# Altium schematic symbol library Schlib.SchLib: 23 symbols
Pins are listed as number, name and electrical type; pins without a type are passive.

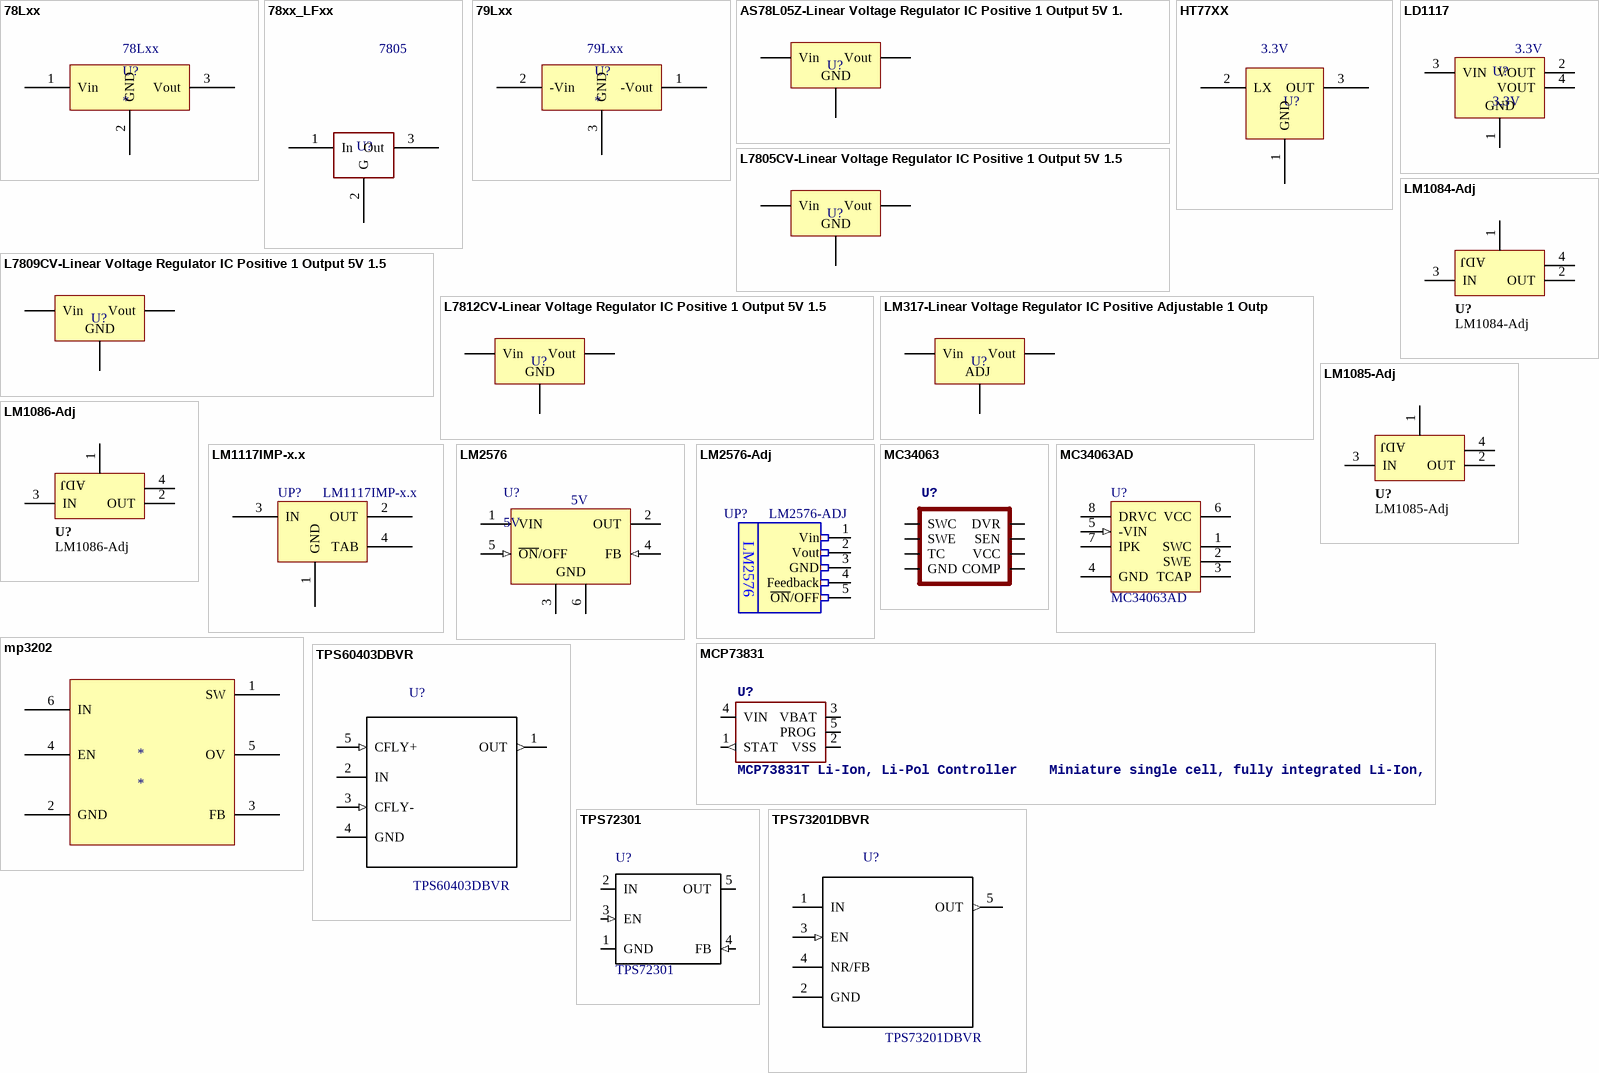
[diagram p0: symbols 78Lxx to TPS73201DBVR]

## 78Lxx
designator U?
footprint 78Lxx
pins: 1 Vin, 2 GND, 3 Vout

## 78xx_LFxx
designator U?, comment 7805
Value: 7805
footprint _TO92
footprint _TO220-ALT
footprint _TO252 (D-PAK, 4-Leads, Body 6.1x6.5mm, Pitch 2.28mm, Lead Span 9.7mm, IPC Medium Density)
footprint _TO220 (TO, Thru-Hole, Vertical, Heatsink Mounted; 3 In-Line Leads; Pitch 2.54 mm)
pins: 1 In, 2 G, 3 Out

## 79Lxx
designator U?
footprint L79lxx (Negative Voltage Regulator)
pins: 1 -Vout, 2 -Vin, 3 GND

## AS78L05Z-Linear Voltage Regulator IC Positive 1 Output 5V 1.5A TO-220AB
designator U?, comment AS78L05Z  (value not drawn)
Linear Voltage Regulator IC Positive FIXED; Manufacturer: STMicroelectronics; Part. No: AS78L05Z-E1; Designer: Abbas Basereh; Link: https://www.aliexpress.com/item/; Link: http://www.tme.eu/en/; Link: http://www.digikey.com/
footprint TO-92 BENT (DESIGNER :ABBAS BASEREH)
footprint TO-92 CF (DESIGNER :ABBAS BASEREH)
footprint TO-92 STR (DESIGNER :ABBAS BASEREH)
pins: 1 Vout, 2 GND, 3 Vin

## HT77XX
designator U?  value 3.3V
footprint _SOT23 (SOT23, 3-Leads, Body 2.9x1.3mm, Pitch 0.95mm, Lead Span 2.3mm - Reverse Pinning, IPC Medium Density)
pins: 1 GND, 2 LX, 3 OUT

## L7805CV-Linear Voltage Regulator IC Positive 1 Output 5V 1.5A TO-220AB
designator U?, comment L7805CV  (value not drawn)
Linear Voltage Regulator IC Positive FIXED; Manufacturer: STMicroelectronics; Designer: Abbas Basereh; Link: https://www.aliexpress.com/item/; Link: http://www.tme.eu/en/; Link: http://www.digikey.com/; Part. No: L7805CV
footprint TO-220 AB WITH HEAT SINK (Epoxy meets UL94, V0)
footprint TO-220 AB (Epoxy meets UL94, V0)
footprint TO-220 AB S (Epoxy meets UL94, V0)
footprint TO-220 AB WITH HEAT SINK ASM
footprint TO-220 AB with heatsink ya25 (Epoxy meets UL94, V0-Design:Abbas Basereh)
pins: 1 Vin, 2 GND, 3 Vout

## L7809CV-Linear Voltage Regulator IC Positive 1 Output 5V 1.5A TO-220AB
designator U?, comment L7809CV  (value not drawn)
Linear Voltage Regulator IC Positive FIXED; Manufacturer: STMicroelectronics; Designer: Abbas Basereh; Link: https://www.aliexpress.com/item/; Link: http://www.tme.eu/en/; Link: http://www.digikey.com/; Part. No: L7809CV
footprint TO-220 AB WITH HEAT SINK (Epoxy meets UL94, V0)
footprint TO-220 AB (Epoxy meets UL94, V0)
footprint TO-220 AB S (Epoxy meets UL94, V0)
footprint TO-220 AB WITH HEAT SINK ASM
footprint TO-220 AB with heatsink ya25 (Epoxy meets UL94, V0-Design:Abbas Basereh)
pins: 1 Vin, 2 GND, 3 Vout

## L7812CV-Linear Voltage Regulator IC Positive 1 Output 5V 1.5A TO-220AB
designator U?, comment L7812CV  (value not drawn)
Linear Voltage Regulator IC Positive FIXED; Manufacturer: STMicroelectronics; Designer: Abbas Basereh; Link: https://www.aliexpress.com/item/; Link: http://www.tme.eu/en/; Link: http://www.digikey.com/; Part. No: L7812CV
footprint TO-220 AB WITH HEAT SINK (Epoxy meets UL94, V0)
footprint TO-220 AB (Epoxy meets UL94, V0)
footprint TO-220 AB S (Epoxy meets UL94, V0)
footprint TO-220 AB WITH HEAT SINK ASM
footprint TO-220 AB with heatsink ya25 (Epoxy meets UL94, V0-Design:Abbas Basereh)
pins: 1 Vin, 2 GND, 3 Vout

## LD1117
designator U?, comment 3.3V
Value: 3.3V
footprint _SOT223
pins: 1 GND (power), 2 VOUT (power), 3 VIN (power), 4 VOUT (power)

## LM317-Linear Voltage Regulator IC Positive Adjustable 1 Output 1.2 V ~ 37 V 1.5A TO-220AB
designator U?, comment LM317  (value not drawn)
Linear Voltage Regulator IC Positive Adjustable; Manufacturer: STMicroelectronics; Part. No: LM317T; Designer: Abbas Basereh; Link: https://www.aliexpress.com/item/10pcs-LM317T-LM317-1-5A-Adj-Voltage-Reg-IC-TO-220/32346665410.html?spm=2114.01010208.3.1.kAAILy&ws_ab_test=searchweb0_0,searchweb201602_4_10065_10068_10084_10083_10080_10082_10081_10060_10061_10062_10056_10055_10054_10059_10099_10078_10079_427_10073_10103_10102_10096_10052_10050_10051,searchweb201603_4&btsid=df845f6f-cd6f-40ae-85f4-c652e8570ab0; Link: http://www.tme.eu/en/details/lm317t/regulated-voltage-regulators/st-microelectronics/; Link: http://www.digikey.com/product-detail/en/stmicroelectronics/LM317T/497-1575-5-ND/591677
footprint TO-220 AB WITH HEAT SINK (Epoxy meets UL94, V0)
footprint TO-220 AB (Epoxy meets UL94, V0)
footprint TO-220 AB S (Epoxy meets UL94, V0)
footprint TO-220 AB WITH HEAT SINK ASM
footprint TO-220 AB with heatsink ya25 (Epoxy meets UL94, V0-Design:Abbas Basereh)
pins: 1 ADJ, 2 Vout, 3 Vin

## LM1084-Adj
designator U?
LM1084-Adj, 5A Low Dropout Positive Adjustable Regulator; Max Input Voltage: 12V; Max Output Current: 5.1A; Max Output Voltage: mV; Min Input Voltage: -0.3V; Min Output Voltage: mV; Mounting Technology: Surface Mount; Status: Unreleased; Supply Voltage: mV; Temperature Range: -40 - 125 degC; Category: IC-Power
footprint TO254P-3N
pins: 1 ADJ, 2 OUT (power), 3 IN (power), 4 TAP

## LM1085-Adj
designator U?
LM1085-Adj, 3A Low Dropout Positive Adjustable Regulator; Max Input Voltage: 12V; Max Output Voltage: mV; Min Input Voltage: -0.3V; Max Output Current: 3A; Min Output Voltage: mV; Mounting Technology: Surface Mount; Status: Unreleased; Supply Voltage: mV; Temperature Range: -40 - 125 degC; Category: IC-Power
footprint TO254P-3N
pins: 1 ADJ, 2 OUT (power), 3 IN (power), 4

## LM1086-Adj
designator U?
LM1086-Adj, 1.5A Low Dropout Positive Adjustable Regulator; Max Input Voltage: 12V; Max Output Voltage: mV; Min Input Voltage: -0.3V; Max Output Current: 1.5A; Min Output Voltage: mV; Mounting Technology: Surface Mount; Status: Unreleased; Supply Voltage: mV; Temperature Range: -40 - 125 degC; Category: IC-Power
footprint TO254P-3N
pins: 1 ADJ, 2 OUT (power), 3 IN (power), 4

## LM1117IMP-x.x
designator UP?
x.x Volt, 800mA Low-Dropout Linear Regulator, 4-pin SOT-223; Designer: Abbas Basereh; Data: 16-12-2016; VALUE: LM1117IMP-x.x
footprint SOT223_4 (SOT223, 4-Leads, Body 6.5x3.5mm, Pitch 2.30mm-Designer Abbas Basereh)
pins: 1 GND (power), 2 OUT (power), 3 IN (power), 4 TAB (power)

## LM2576
designator U?, comment 5V
Buck Step Down Regulator with 4.75 to 60 V Input and 15 V Output, -40 to 125 degC, 5-Pin DDPAK/TO-263 (KTT), Green (RoHS & no Sb/Br); Value: 5V
footprint _TO263 (Footprint not found)
pins: 1 VIN (power), 2 OUT (power), 3 GND (power), 4 FB (in), 5 ~{ON}/OFF (in), 6 GND (power)

## LM2576-Adj
designator UP?, comment LM2576-ADJ
1.2-50V, 3A variable output step-down switching voltage regulator; Designer: Abbas Basereh; Data: 16-12-2016; Link: *; Part.No: *; VALUE: LM2576-ADJ
footprint TO-220_5 with heatsink (TO-220 STRAIGHT, T05A pitch: 1.7mm-Designer Abbas Basereh)
footprint TO-220_5 with heatsink HS sot32 (TO-220 STRAIGHT, T05A pitch: 1.7mm-Designer Abbas Basereh)
footprint TO-220_5 (TO-220 STRAIGHT, T05A pitch: 1.7mm-Designer Abbas Basereh)
footprint TO-220_5 - with heatsink ya25 (TO-220 STRAIGHT, T05A pitch: 1.7mm-Designer Abbas Basereh)
pins: 1 Vin, 2 Vout, 3 GND, 4 Feedback, 5 ~{ON}/OFF
text: LM2576

## MC34063
designator U?  (value not drawn)
footprint _DIP08
footprint _DIP08-KIT
footprint _SO08
pins: 1 SWC, 2 SWE, 3 TC, 4 GND, 5 COMP, 6 VCC, 7 SEN, 8 DVR

## MC34063AD
designator U?
DC-to-DC Converter Control Circuit; Published: 2017-3-1; LatestRevisionDate: 2017-3-1; LatestRevisionNote: IPC-7351 Footprint Added.; DatasheetVersion: 2017; PackageReference: 751-02; Publisher: ABBAS BASEREH; PackageDescription: 8-Pin Small Outline Integrated Circuit 1.27 mm Pitch; Code_JEDEC: MS-012-AA; Code_IPC: SOIC127P600-8; ComponentLink1Description: Manufacturer Link; ComponentLink1URL: http://www.onsemi.com/site/products/taxonomy/0,4438,503,00.html; ComponentLink2Description: Datasheet; ComponentLink2URL: http://www.onsemi.com/pub/Collateral/MC34063A-D.PDF
footprint 751-02_N (SOIC, 8-Leads, Body 4.9x3.9mm, Pitch 1.27mm, IPC Medium Density)
footprint 751-02_L (SOIC, 8-Leads, Body 4.9x3.9mm, Pitch 1.27mm, IPC High Density)
footprint 751-02_M (SOIC, 8-Leads, Body 4.9x3.9mm, Pitch 1.27mm, IPC Low Density)
pins: 1 SWC (oc), 2 SWE (oe), 3 TCAP, 4 GND (power), 5 -VIN (in), 6 VCC (power), 7 IPK, 8 DRVC (oc)

## MCP73831
designator U?, comment MCP73831T Li-Ion, Li-Pol Controller    Miniature single cell, fully integrated Li-Ion, Li-polymer charge management controller  Datasheet    SparkFun Products: SparkFun ESP32 Thing  SparkFun 9DoF Razor IMU M0
PROD_ID: IC-09995
footprint _SOT23-5
pins: 1 STAT (out), 2 VSS (power), 3 VBAT (power), 4 VIN (power), 5 PROG

## mp3202
designator *
footprint TSOT-23-6
pins: 1 SW, 2 GND, 3 FB, 4 EN, 5 OV, 6 IN

## TPS60403DBVR
designator U?
60mA Charge Pump Voltage Inverter with Fixed 250kHz Operation 5-SOT-23 -40 to 85; MF: Texas Instruments; Package: SOT-23-5 Texas Instruments; Price: None; SnapEDA_Link: https://www.snapeda.com/parts/TPS60403DBVR/Texas%20Instruments/view-part/?ref=snap; MP: TPS60403DBVR; Availability: Unavailable; Value: *
footprint *SOT95P280X145-5N
pins: 1 OUT (out), 2 IN (power), 3 CFLY- (in), 4 GND, 5 CFLY+ (in)

## TPS72301
designator U?
the tps723xx family of low-dropout _ldo_ negative voltage regulators offers an ideal combination of features to suppo...; MF: Texas Instruments; Availability: Unavailable; Package: None; Price: None; SnapEDA_Link: https://www.snapeda.com/parts/TPS72301/Texas%20Instruments/view-part/?ref=snap; MP: TPS72301; Value: *
footprint *SOT-23-5
pins: 1 GND (power), 2 IN (power), 3 EN (in), 4 FB (in), 5 OUT (power)

## TPS73201DBVR
designator U?
Cap-Free, NMOS, 250mA Low Dropout Regulator with Reverse Current Protection 5-SOT-23 -40 to 125; MF: Texas Instruments; Availability: Unavailable; Package: SOT-23-5 Texas Instruments; Price: None; SnapEDA_Link: https://www.snapeda.com/parts/TPS73201DBVR/Texas%20Instruments/view-part/?ref=snap; MP: TPS73201DBVR; Value: *
footprint *SOT95P280X145-5N
pins: 1 IN (power), 2 GND, 3 EN (in), 4 NR/FB, 5 OUT (out)